# Altium integrated library NSC LDO.IntLib: 1202 symbols (part 13 of 27)
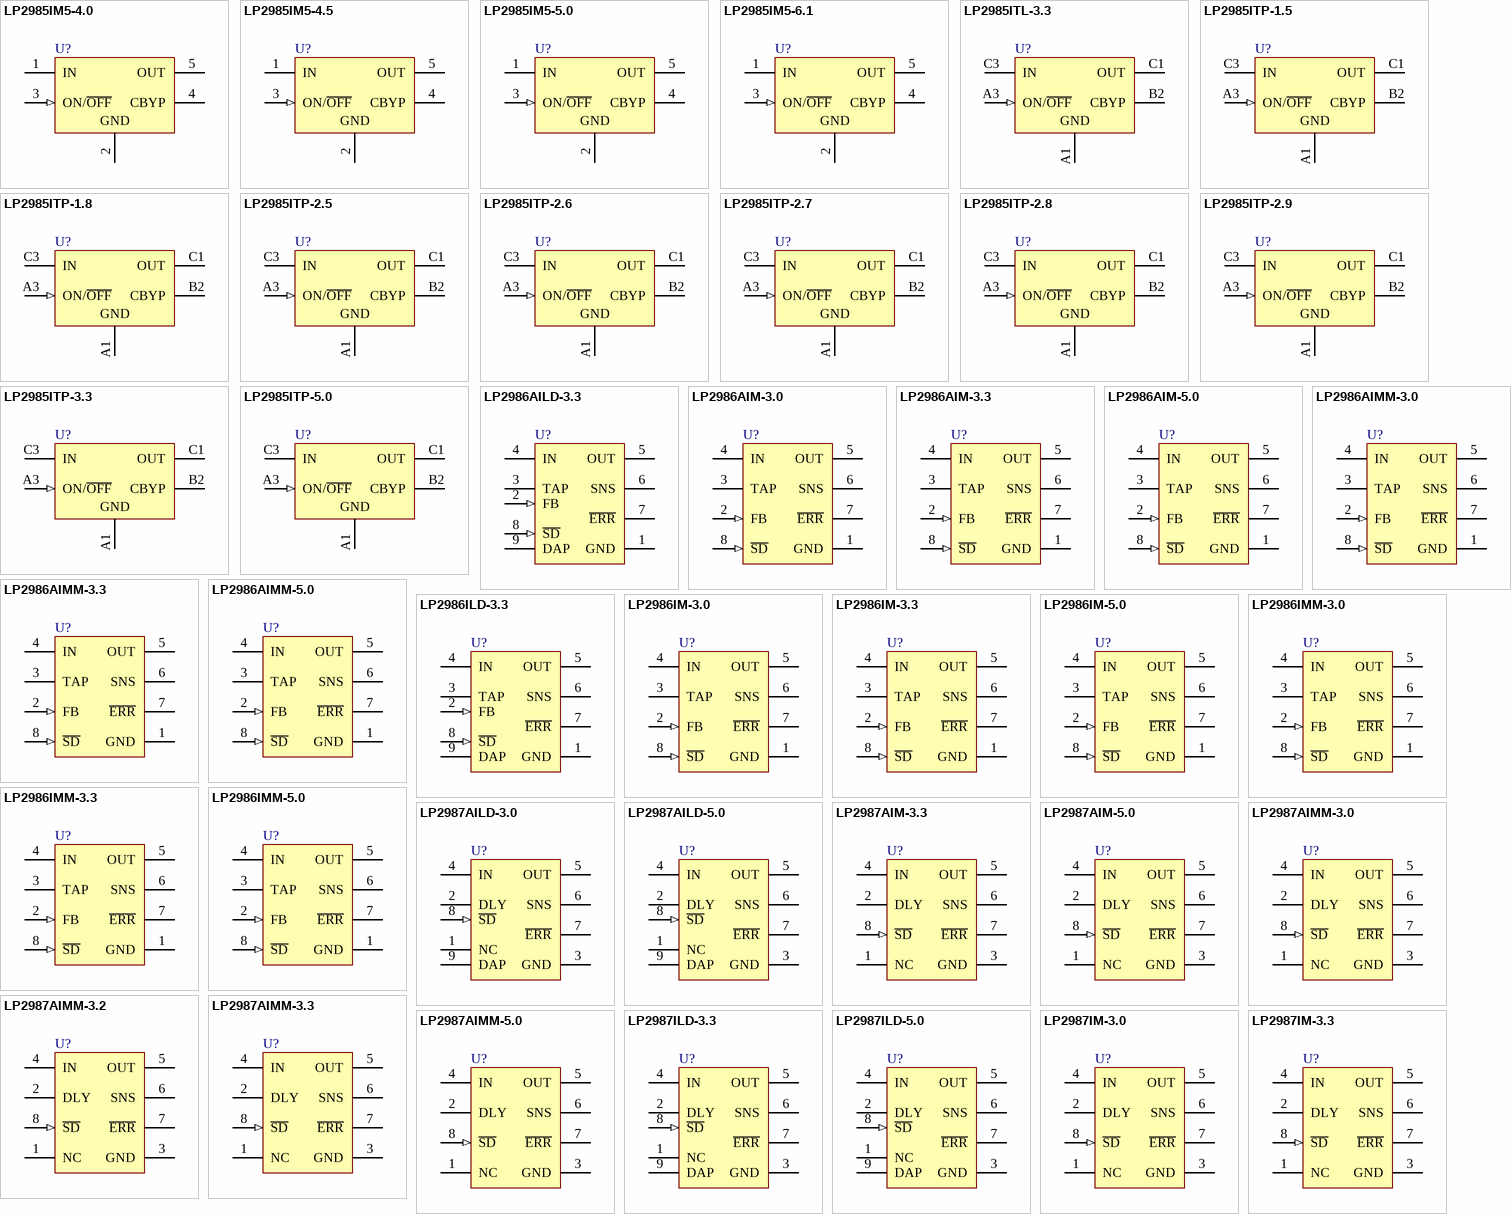
[diagram p42: symbols LP2985IM5-4.0 to LP2987IM-3.3]

## LP2987AIM-5.0
designator U?
Micropower, 200 mA Ultra Low-Dropout Voltage Regulator with Programmable Power-On Reset Delay; PartNumber: LP2987AIM-5.0; Manufacturer: National Semiconductor; CompType: LDO IC; PackageTopMarking: NSZXTT*2987A*IM5.0; Published: 4-Dec-2008; DatasheetVersion: Mar-2005; PackageVersion: revL, Sep-2006; PackageReference: M08A; Publisher: Altium Limited; PackageDescription: SOIC Narrow, 4.9 x 3.9 x 1.45mm, 8 Lead, 1.27mm Pitch; RoHS: Y; PinCount: 8; DigiKeyPartNumber: LP2987AIM-5.0-ND; Code_JEDEC: MS-012-AA; Code_IPC: SOIC127P600-8; ComponentLink1Description: LP2987 Datasheet; ComponentLink1URL: http://www.national.com/ds/LP/LP2987.pdf; ComponentLink2Description: LP2987 Web Page; ComponentLink2URL: http://www.national.com/pf/LP/LP2987.html; ComponentLink3Description: M08A Package Page; ComponentLink3URL: http://www.national.com/packaging/folders/m08a.html
footprint M08A_N (SOIC, 8-Leads, Body 4.9x3.9mm, Pitch 1.27mm, IPC Medium Density)
footprint M08A_L (SOIC, 8-Leads, Body 4.9x3.9mm, Pitch 1.27mm, IPC High Density)
footprint M08A_M (SOIC, 8-Leads, Body 4.9x3.9mm, Pitch 1.27mm, IPC Low Density)
pins: 1 NC, 2 DLY, 3 GND (power), 4 IN (power), 5 OUT (power), 6 SNS, 7 ~{ERR} (oc), 8 ~{SD} (in)

## LP2987AIMM-3.0
designator U?
Micropower, 200 mA Ultra Low-Dropout Voltage Regulator with Programmable Power-On Reset Delay; PartNumber: LP2987AIMM-3.0; Manufacturer: National Semiconductor; CompType: LDO IC; PackageTopMarking: ZXTT*L42A; Published: 4-Dec-2008; DatasheetVersion: Mar-2005; PackageVersion: revF, Apr-2008; PackageReference: MUA08A; Publisher: Altium Limited; PackageDescription: MINI SOIC, .118 x .118 x .034in, 8 Lead, .0256in Pitch; RoHS: Y; PinCount: 8; DigiKeyPartNumber: LP2987AIMM-3.0TR-ND; Code_JEDEC: MO-187-AA; ComponentLink1Description: LP2987 Datasheet; ComponentLink1URL: http://www.national.com/ds/LP/LP2987.pdf; ComponentLink2Description: LP2987 Web Page; ComponentLink2URL: http://www.national.com/pf/LP/LP2987.html; ComponentLink3Description: MUA08A Package Page; ComponentLink3URL: http://www.national.com/packaging/folders/mua08a.html
footprint MUA08A_N (TSOP, 8-Leads, Body 3x3mm, Pitch 0.65mm, IPC Medium Density)
footprint MUA08A_L (TSOP, 8-Leads, Body 3x3mm, Pitch 0.65mm, IPC High Density)
footprint MUA08A_M (TSOP, 8-Leads, Body 3x3mm, Pitch 0.65mm, IPC Low Density)
pins: 1 NC, 2 DLY, 3 GND (power), 4 IN (power), 5 OUT (power), 6 SNS, 7 ~{ERR} (oc), 8 ~{SD} (in)

## LP2987AIMM-3.2
designator U?
Micropower, 200 mA Ultra Low-Dropout Voltage Regulator with Programmable Power-On Reset Delay; PartNumber: LP2987AIMM-3.2; Manufacturer: National Semiconductor; CompType: LDO IC; PackageTopMarking: ZXTT*L66A; Published: 4-Dec-2008; DatasheetVersion: Mar-2005; PackageVersion: revF, Apr-2008; PackageReference: MUA08A; Publisher: Altium Limited; PackageDescription: MINI SOIC, .118 x .118 x .034in, 8 Lead, .0256in Pitch; RoHS: Y; PinCount: 8; DigiKeyPartNumber: LP2987AIMM-3.2CT-ND; Code_JEDEC: MO-187-AA; ComponentLink1Description: LP2987 Datasheet; ComponentLink1URL: http://www.national.com/ds/LP/LP2987.pdf; ComponentLink2Description: LP2987 Web Page; ComponentLink2URL: http://www.national.com/pf/LP/LP2987.html; ComponentLink3Description: MUA08A Package Page; ComponentLink3URL: http://www.national.com/packaging/folders/mua08a.html
footprint MUA08A_N (TSOP, 8-Leads, Body 3x3mm, Pitch 0.65mm, IPC Medium Density)
footprint MUA08A_L (TSOP, 8-Leads, Body 3x3mm, Pitch 0.65mm, IPC High Density)
footprint MUA08A_M (TSOP, 8-Leads, Body 3x3mm, Pitch 0.65mm, IPC Low Density)
pins: 1 NC, 2 DLY, 3 GND (power), 4 IN (power), 5 OUT (power), 6 SNS, 7 ~{ERR} (oc), 8 ~{SD} (in)

## LP2987AIMM-3.3
designator U?
Micropower, 200 mA Ultra Low-Dropout Voltage Regulator with Programmable Power-On Reset Delay; PartNumber: LP2987AIMM-3.3; Manufacturer: National Semiconductor; CompType: LDO IC; PackageTopMarking: ZXTT*L43A; Published: 4-Dec-2008; DatasheetVersion: Mar-2005; PackageVersion: revF, Apr-2008; PackageReference: MUA08A; Publisher: Altium Limited; PackageDescription: MINI SOIC, .118 x .118 x .034in, 8 Lead, .0256in Pitch; RoHS: Y; PinCount: 8; DigiKeyPartNumber: LP2987AIMM-3.3CT-ND; Code_JEDEC: MO-187-AA; ComponentLink1Description: LP2987 Datasheet; ComponentLink1URL: http://www.national.com/ds/LP/LP2987.pdf; ComponentLink2Description: LP2987 Web Page; ComponentLink2URL: http://www.national.com/pf/LP/LP2987.html; ComponentLink3Description: MUA08A Package Page; ComponentLink3URL: http://www.national.com/packaging/folders/mua08a.html
footprint MUA08A_N (TSOP, 8-Leads, Body 3x3mm, Pitch 0.65mm, IPC Medium Density)
footprint MUA08A_L (TSOP, 8-Leads, Body 3x3mm, Pitch 0.65mm, IPC High Density)
footprint MUA08A_M (TSOP, 8-Leads, Body 3x3mm, Pitch 0.65mm, IPC Low Density)
pins: 1 NC, 2 DLY, 3 GND (power), 4 IN (power), 5 OUT (power), 6 SNS, 7 ~{ERR} (oc), 8 ~{SD} (in)

## LP2987AIMM-5.0
designator U?
Micropower, 200 mA Ultra Low-Dropout Voltage Regulator with Programmable Power-On Reset Delay; PartNumber: LP2987AIMM-5.0; Manufacturer: National Semiconductor; CompType: LDO IC; PackageTopMarking: ZXTT*L44A; Published: 4-Dec-2008; DatasheetVersion: Mar-2005; PackageVersion: revF, Apr-2008; PackageReference: MUA08A; Publisher: Altium Limited; PackageDescription: MINI SOIC, .118 x .118 x .034in, 8 Lead, .0256in Pitch; RoHS: Y; PinCount: 8; DigiKeyPartNumber: LP2987AIMM-5.0CT-ND; Code_JEDEC: MO-187-AA; ComponentLink1Description: LP2987 Datasheet; ComponentLink1URL: http://www.national.com/ds/LP/LP2987.pdf; ComponentLink2Description: LP2987 Web Page; ComponentLink2URL: http://www.national.com/pf/LP/LP2987.html; ComponentLink3Description: MUA08A Package Page; ComponentLink3URL: http://www.national.com/packaging/folders/mua08a.html
footprint MUA08A_N (TSOP, 8-Leads, Body 3x3mm, Pitch 0.65mm, IPC Medium Density)
footprint MUA08A_L (TSOP, 8-Leads, Body 3x3mm, Pitch 0.65mm, IPC High Density)
footprint MUA08A_M (TSOP, 8-Leads, Body 3x3mm, Pitch 0.65mm, IPC Low Density)
pins: 1 NC, 2 DLY, 3 GND (power), 4 IN (power), 5 OUT (power), 6 SNS, 7 ~{ERR} (oc), 8 ~{SD} (in)

## LP2987ILD-3.3
designator U?
Micropower, 200 mA Ultra Low-Dropout Voltage Regulator with Programmable Power-On Reset Delay; PartNumber: LP2987ILD-3.3; Manufacturer: National Semiconductor; CompType: LDO IC; PackageTopMarking: NS*UZXYTT*L008A*B; Published: 4-Dec-2008; DatasheetVersion: Mar-2005; PackageVersion: revB, Jun-2003; PackageReference: LDC08A; Publisher: Altium Limited; PackageDescription: LLP, Plastic, Dual, 4 x 4 x 0.75mm Body, 8 Lead, 0.8mm Pitch; RoHS: Y; PinCount: 8; DigiKeyPartNumber: LP2987ILD-3.3CT-ND; ComponentLink1Description: LP2987 Datasheet; ComponentLink1URL: http://www.national.com/ds/LP/LP2987.pdf; ComponentLink2Description: LP2987 Web Page; ComponentLink2URL: http://www.national.com/pf/LP/LP2987.html; ComponentLink3Description: LDC08A Package Page; ComponentLink3URL: http://www.national.com/packaging/folders/ldc08a.html
footprint LDC08A (PSON, 8-Leads, Body 4x4mm, Pitch 0.8mm, NSC Recommended)
pins: 1 NC, 2 DLY, 3 GND (power), 4 IN (power), 5 OUT (power), 6 SNS, 7 ~{ERR} (oc), 8 ~{SD} (in), 9 DAP (power)

## LP2987ILD-5.0
designator U?
Micropower, 200 mA Ultra Low-Dropout Voltage Regulator with Programmable Power-On Reset Delay; PartNumber: LP2987ILD-5.0; Manufacturer: National Semiconductor; CompType: LDO IC; PackageTopMarking: NS*UZXYTT*L009A*B; Published: 4-Dec-2008; DatasheetVersion: Mar-2005; PackageVersion: revB, Jun-2003; PackageReference: LDC08A; Publisher: Altium Limited; PackageDescription: LLP, Plastic, Dual, 4 x 4 x 0.75mm Body, 8 Lead, 0.8mm Pitch; RoHS: Y; PinCount: 8; DigiKeyPartNumber: LP2987ILD-5.0CT-ND; ComponentLink1Description: LP2987 Datasheet; ComponentLink1URL: http://www.national.com/ds/LP/LP2987.pdf; ComponentLink2Description: LP2987 Web Page; ComponentLink2URL: http://www.national.com/pf/LP/LP2987.html; ComponentLink3Description: LDC08A Package Page; ComponentLink3URL: http://www.national.com/packaging/folders/ldc08a.html
footprint LDC08A (PSON, 8-Leads, Body 4x4mm, Pitch 0.8mm, NSC Recommended)
pins: 1 NC, 2 DLY, 3 GND (power), 4 IN (power), 5 OUT (power), 6 SNS, 7 ~{ERR} (oc), 8 ~{SD} (in), 9 DAP (power)

## LP2987IM-3.0
designator U?
Micropower, 200 mA Ultra Low-Dropout Voltage Regulator with Programmable Power-On Reset Delay; PartNumber: LP2987IM-3.0; Manufacturer: National Semiconductor; CompType: LDO IC; PackageTopMarking: NSZXTT*2987I*M3.0; Published: 4-Dec-2008; DatasheetVersion: Mar-2005; PackageVersion: revL, Sep-2006; PackageReference: M08A; Publisher: Altium Limited; PackageDescription: SOIC Narrow, 4.9 x 3.9 x 1.45mm, 8 Lead, 1.27mm Pitch; RoHS: Y; PinCount: 8; DigiKeyPartNumber: LP2987IM-3.0-ND; Code_JEDEC: MS-012-AA; Code_IPC: SOIC127P600-8; ComponentLink1Description: LP2987 Datasheet; ComponentLink1URL: http://www.national.com/ds/LP/LP2987.pdf; ComponentLink2Description: LP2987 Web Page; ComponentLink2URL: http://www.national.com/pf/LP/LP2987.html; ComponentLink3Description: M08A Package Page; ComponentLink3URL: http://www.national.com/packaging/folders/m08a.html
footprint M08A_N (SOIC, 8-Leads, Body 4.9x3.9mm, Pitch 1.27mm, IPC Medium Density)
footprint M08A_L (SOIC, 8-Leads, Body 4.9x3.9mm, Pitch 1.27mm, IPC High Density)
footprint M08A_M (SOIC, 8-Leads, Body 4.9x3.9mm, Pitch 1.27mm, IPC Low Density)
pins: 1 NC, 2 DLY, 3 GND (power), 4 IN (power), 5 OUT (power), 6 SNS, 7 ~{ERR} (oc), 8 ~{SD} (in)

## LP2987IM-3.3
designator U?
Micropower, 200 mA Ultra Low-Dropout Voltage Regulator with Programmable Power-On Reset Delay; PartNumber: LP2987IM-3.3; Manufacturer: National Semiconductor; CompType: LDO IC; PackageTopMarking: NSZXTT*2987I*M3.3; Published: 4-Dec-2008; DatasheetVersion: Mar-2005; PackageVersion: revL, Sep-2006; PackageReference: M08A; Publisher: Altium Limited; PackageDescription: SOIC Narrow, 4.9 x 3.9 x 1.45mm, 8 Lead, 1.27mm Pitch; RoHS: Y; PinCount: 8; DigiKeyPartNumber: LP2987IM-3.3-ND; Code_JEDEC: MS-012-AA; Code_IPC: SOIC127P600-8; ComponentLink1Description: LP2987 Datasheet; ComponentLink1URL: http://www.national.com/ds/LP/LP2987.pdf; ComponentLink2Description: LP2987 Web Page; ComponentLink2URL: http://www.national.com/pf/LP/LP2987.html; ComponentLink3Description: M08A Package Page; ComponentLink3URL: http://www.national.com/packaging/folders/m08a.html
footprint M08A_N (SOIC, 8-Leads, Body 4.9x3.9mm, Pitch 1.27mm, IPC Medium Density)
footprint M08A_L (SOIC, 8-Leads, Body 4.9x3.9mm, Pitch 1.27mm, IPC High Density)
footprint M08A_M (SOIC, 8-Leads, Body 4.9x3.9mm, Pitch 1.27mm, IPC Low Density)
pins: 1 NC, 2 DLY, 3 GND (power), 4 IN (power), 5 OUT (power), 6 SNS, 7 ~{ERR} (oc), 8 ~{SD} (in)

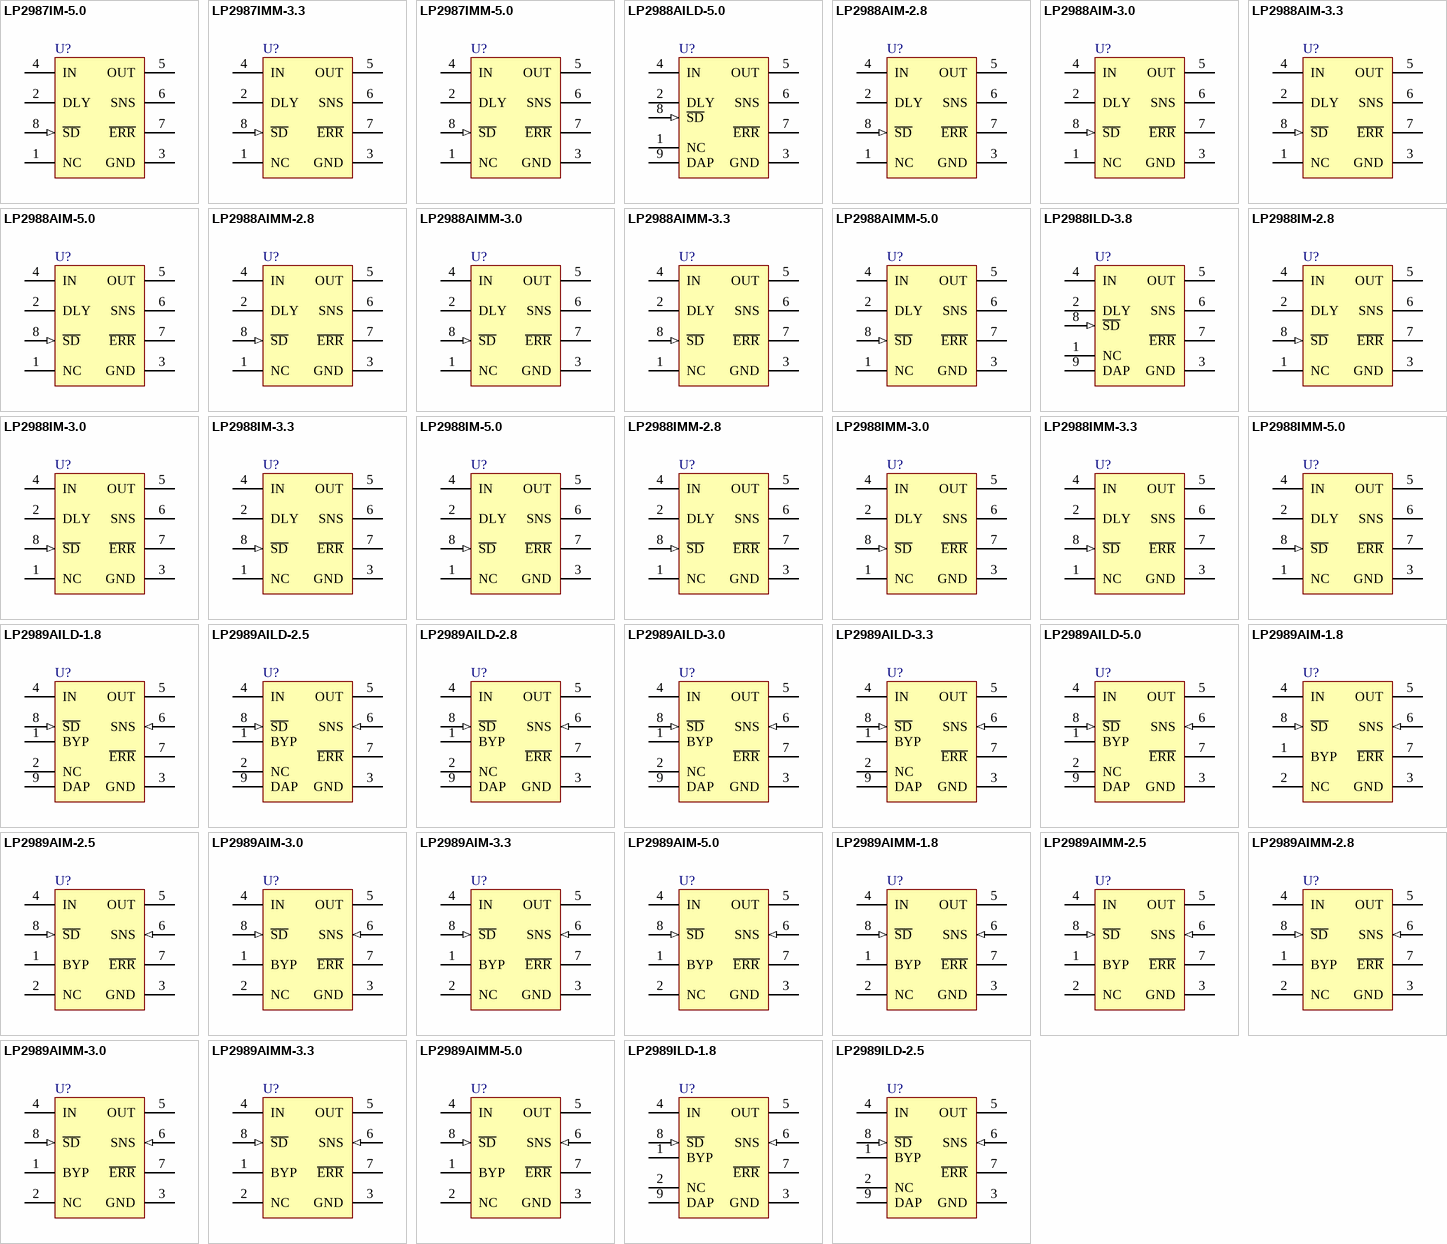
[diagram p14: symbols LP2987IM-5.0 to LP2989ILD-2.5]

## LP2987IM-5.0
designator U?
Micropower, 200 mA Ultra Low-Dropout Voltage Regulator with Programmable Power-On Reset Delay; PartNumber: LP2987IM-5.0; Manufacturer: National Semiconductor; CompType: LDO IC; PackageTopMarking: NSZXTT*2987I*M5.0; Published: 4-Dec-2008; DatasheetVersion: Mar-2005; PackageVersion: revL, Sep-2006; PackageReference: M08A; Publisher: Altium Limited; PackageDescription: SOIC Narrow, 4.9 x 3.9 x 1.45mm, 8 Lead, 1.27mm Pitch; RoHS: Y; PinCount: 8; DigiKeyPartNumber: LP2987IM-5.0-ND; Code_JEDEC: MS-012-AA; Code_IPC: SOIC127P600-8; ComponentLink1Description: LP2987 Datasheet; ComponentLink1URL: http://www.national.com/ds/LP/LP2987.pdf; ComponentLink2Description: LP2987 Web Page; ComponentLink2URL: http://www.national.com/pf/LP/LP2987.html; ComponentLink3Description: M08A Package Page; ComponentLink3URL: http://www.national.com/packaging/folders/m08a.html
footprint M08A_N (SOIC, 8-Leads, Body 4.9x3.9mm, Pitch 1.27mm, IPC Medium Density)
footprint M08A_L (SOIC, 8-Leads, Body 4.9x3.9mm, Pitch 1.27mm, IPC High Density)
footprint M08A_M (SOIC, 8-Leads, Body 4.9x3.9mm, Pitch 1.27mm, IPC Low Density)
pins: 1 NC, 2 DLY, 3 GND (power), 4 IN (power), 5 OUT (power), 6 SNS, 7 ~{ERR} (oc), 8 ~{SD} (in)

## LP2987IMM-3.3
designator U?
Micropower, 200 mA Ultra Low-Dropout Voltage Regulator with Programmable Power-On Reset Delay; PartNumber: LP2987IMM-3.3; Manufacturer: National Semiconductor; CompType: LDO IC; PackageTopMarking: ZXTT*L43B; Published: 4-Dec-2008; DatasheetVersion: Mar-2005; PackageVersion: revF, Apr-2008; PackageReference: MUA08A; Publisher: Altium Limited; PackageDescription: MINI SOIC, .118 x .118 x .034in, 8 Lead, .0256in Pitch; RoHS: Y; PinCount: 8; DigiKeyPartNumber: LP2987IMM-3.3CT-ND; Code_JEDEC: MO-187-AA; ComponentLink1Description: LP2987 Datasheet; ComponentLink1URL: http://www.national.com/ds/LP/LP2987.pdf; ComponentLink2Description: LP2987 Web Page; ComponentLink2URL: http://www.national.com/pf/LP/LP2987.html; ComponentLink3Description: MUA08A Package Page; ComponentLink3URL: http://www.national.com/packaging/folders/mua08a.html
footprint MUA08A_N (TSOP, 8-Leads, Body 3x3mm, Pitch 0.65mm, IPC Medium Density)
footprint MUA08A_L (TSOP, 8-Leads, Body 3x3mm, Pitch 0.65mm, IPC High Density)
footprint MUA08A_M (TSOP, 8-Leads, Body 3x3mm, Pitch 0.65mm, IPC Low Density)
pins: 1 NC, 2 DLY, 3 GND (power), 4 IN (power), 5 OUT (power), 6 SNS, 7 ~{ERR} (oc), 8 ~{SD} (in)

## LP2987IMM-5.0
designator U?
Micropower, 200 mA Ultra Low-Dropout Voltage Regulator with Programmable Power-On Reset Delay; PartNumber: LP2987IMM-5.0; Manufacturer: National Semiconductor; CompType: LDO IC; PackageTopMarking: ZXTT*L44B; Published: 4-Dec-2008; DatasheetVersion: Mar-2005; PackageVersion: revF, Apr-2008; PackageReference: MUA08A; Publisher: Altium Limited; PackageDescription: MINI SOIC, .118 x .118 x .034in, 8 Lead, .0256in Pitch; RoHS: Y; PinCount: 8; DigiKeyPartNumber: LP2987IMM-5.0CT-ND; Code_JEDEC: MO-187-AA; ComponentLink1Description: LP2987 Datasheet; ComponentLink1URL: http://www.national.com/ds/LP/LP2987.pdf; ComponentLink2Description: LP2987 Web Page; ComponentLink2URL: http://www.national.com/pf/LP/LP2987.html; ComponentLink3Description: MUA08A Package Page; ComponentLink3URL: http://www.national.com/packaging/folders/mua08a.html
footprint MUA08A_N (TSOP, 8-Leads, Body 3x3mm, Pitch 0.65mm, IPC Medium Density)
footprint MUA08A_L (TSOP, 8-Leads, Body 3x3mm, Pitch 0.65mm, IPC High Density)
footprint MUA08A_M (TSOP, 8-Leads, Body 3x3mm, Pitch 0.65mm, IPC Low Density)
pins: 1 NC, 2 DLY, 3 GND (power), 4 IN (power), 5 OUT (power), 6 SNS, 7 ~{ERR} (oc), 8 ~{SD} (in)

## LP2988AILD-5.0
designator U?
Micropower, 200 mA Ultra Low-Dropout Low Noise Voltage Regulator with Programmable Power-On Reset Delay; PartNumber: LP2988AILD-5.0; Manufacturer: National Semiconductor; CompType: LDO IC; PackageTopMarking: NS*UZXYTT*L01DA; Published: 4-Dec-2008; DatasheetVersion: Mar-2005; PackageVersion: revB, Jun-2003; PackageReference: LDC08A; Publisher: Altium Limited; PackageDescription: LLP, Plastic, Dual, 4 x 4 x 0.75mm Body, 8 Lead, 0.8mm Pitch; RoHS: O; PinCount: 8; DigiKeyPartNumber: LP2988AILD-5.0CT-ND; ComponentLink1Description: LP2988 Datasheet; ComponentLink1URL: http://www.national.com/ds/LP/LP2988.pdf; ComponentLink2Description: LP2988 Web Page; ComponentLink2URL: http://www.national.com/pf/LP/LP2988.html; ComponentLink3Description: LDC08A Package Page; ComponentLink3URL: http://www.national.com/packaging/folders/ldc08a.html
footprint LDC08A (PSON, 8-Leads, Body 4x4mm, Pitch 0.8mm, NSC Recommended)
pins: 1 NC, 2 DLY, 3 GND (power), 4 IN (power), 5 OUT (power), 6 SNS, 7 ~{ERR} (oc), 8 ~{SD} (in), 9 DAP (power)

## LP2988AIM-2.8
designator U?
Micropower, 200 mA Ultra Low-Dropout Low Noise Voltage Regulator with Programmable Power-On Reset Delay; PartNumber: LP2988AIM-2.8; Manufacturer: National Semiconductor; CompType: LDO IC; PackageTopMarking: NSZXTT*2988A*IM2.8; Published: 4-Dec-2008; DatasheetVersion: Mar-2005; PackageVersion: revL, Sep-2006; PackageReference: M08A; Publisher: Altium Limited; PackageDescription: SOIC Narrow, 4.9 x 3.9 x 1.45mm, 8 Lead, 1.27mm Pitch; RoHS: Y; PinCount: 8; DigiKeyPartNumber: LP2988AIM-2.8-ND; Code_JEDEC: MS-012-AA; Code_IPC: SOIC127P600-8; ComponentLink1Description: LP2988 Datasheet; ComponentLink1URL: http://www.national.com/ds/LP/LP2988.pdf; ComponentLink2Description: LP2988 Web Page; ComponentLink2URL: http://www.national.com/pf/LP/LP2988.html; ComponentLink3Description: M08A Package Page; ComponentLink3URL: http://www.national.com/packaging/folders/m08a.html
footprint M08A_N (SOIC, 8-Leads, Body 4.9x3.9mm, Pitch 1.27mm, IPC Medium Density)
footprint M08A_L (SOIC, 8-Leads, Body 4.9x3.9mm, Pitch 1.27mm, IPC High Density)
footprint M08A_M (SOIC, 8-Leads, Body 4.9x3.9mm, Pitch 1.27mm, IPC Low Density)
pins: 1 NC, 2 DLY, 3 GND (power), 4 IN (power), 5 OUT (power), 6 SNS, 7 ~{ERR} (oc), 8 ~{SD} (in)

## LP2988AIM-3.0
designator U?
Micropower, 200 mA Ultra Low-Dropout Low Noise Voltage Regulator with Programmable Power-On Reset Delay; PartNumber: LP2988AIM-3.0; Manufacturer: National Semiconductor; CompType: LDO IC; PackageTopMarking: NSZXTT*2988A*IM3.0; Published: 4-Dec-2008; DatasheetVersion: Mar-2005; PackageVersion: revL, Sep-2006; PackageReference: M08A; Publisher: Altium Limited; PackageDescription: SOIC Narrow, 4.9 x 3.9 x 1.45mm, 8 Lead, 1.27mm Pitch; RoHS: Y; PinCount: 8; DigiKeyPartNumber: LP2988AIM-3.0-ND; Code_JEDEC: MS-012-AA; Code_IPC: SOIC127P600-8; ComponentLink1Description: LP2988 Datasheet; ComponentLink1URL: http://www.national.com/ds/LP/LP2988.pdf; ComponentLink2Description: LP2988 Web Page; ComponentLink2URL: http://www.national.com/pf/LP/LP2988.html; ComponentLink3Description: M08A Package Page; ComponentLink3URL: http://www.national.com/packaging/folders/m08a.html
footprint M08A_N (SOIC, 8-Leads, Body 4.9x3.9mm, Pitch 1.27mm, IPC Medium Density)
footprint M08A_L (SOIC, 8-Leads, Body 4.9x3.9mm, Pitch 1.27mm, IPC High Density)
footprint M08A_M (SOIC, 8-Leads, Body 4.9x3.9mm, Pitch 1.27mm, IPC Low Density)
pins: 1 NC, 2 DLY, 3 GND (power), 4 IN (power), 5 OUT (power), 6 SNS, 7 ~{ERR} (oc), 8 ~{SD} (in)

## LP2988AIM-3.3
designator U?
Micropower, 200 mA Ultra Low-Dropout Low Noise Voltage Regulator with Programmable Power-On Reset Delay; PartNumber: LP2988AIM-3.3; Manufacturer: National Semiconductor; CompType: LDO IC; PackageTopMarking: NSZXTT*2988A*IM3.3; Published: 4-Dec-2008; DatasheetVersion: Mar-2005; PackageVersion: revL, Sep-2006; PackageReference: M08A; Publisher: Altium Limited; PackageDescription: SOIC Narrow, 4.9 x 3.9 x 1.45mm, 8 Lead, 1.27mm Pitch; RoHS: O; PinCount: 8; DigiKeyPartNumber: LP2988AIM-3.3-ND; Code_JEDEC: MS-012-AA; Code_IPC: SOIC127P600-8; ComponentLink1Description: LP2988 Datasheet; ComponentLink1URL: http://www.national.com/ds/LP/LP2988.pdf; ComponentLink2Description: LP2988 Web Page; ComponentLink2URL: http://www.national.com/pf/LP/LP2988.html; ComponentLink3Description: M08A Package Page; ComponentLink3URL: http://www.national.com/packaging/folders/m08a.html
footprint M08A_N (SOIC, 8-Leads, Body 4.9x3.9mm, Pitch 1.27mm, IPC Medium Density)
footprint M08A_L (SOIC, 8-Leads, Body 4.9x3.9mm, Pitch 1.27mm, IPC High Density)
footprint M08A_M (SOIC, 8-Leads, Body 4.9x3.9mm, Pitch 1.27mm, IPC Low Density)
pins: 1 NC, 2 DLY, 3 GND (power), 4 IN (power), 5 OUT (power), 6 SNS, 7 ~{ERR} (oc), 8 ~{SD} (in)

## LP2988AIM-5.0
designator U?
Micropower, 200 mA Ultra Low-Dropout Low Noise Voltage Regulator with Programmable Power-On Reset Delay; PartNumber: LP2988AIM-5.0; Manufacturer: National Semiconductor; CompType: LDO IC; PackageTopMarking: NSZXTT*2988A*IM5.0; Published: 4-Dec-2008; DatasheetVersion: Mar-2005; PackageVersion: revL, Sep-2006; PackageReference: M08A; Publisher: Altium Limited; PackageDescription: SOIC Narrow, 4.9 x 3.9 x 1.45mm, 8 Lead, 1.27mm Pitch; RoHS: O; PinCount: 8; DigiKeyPartNumber: LP2988AIM-5.0-ND; Code_JEDEC: MS-012-AA; Code_IPC: SOIC127P600-8; ComponentLink1Description: LP2988 Datasheet; ComponentLink1URL: http://www.national.com/ds/LP/LP2988.pdf; ComponentLink2Description: LP2988 Web Page; ComponentLink2URL: http://www.national.com/pf/LP/LP2988.html; ComponentLink3Description: M08A Package Page; ComponentLink3URL: http://www.national.com/packaging/folders/m08a.html
footprint M08A_N (SOIC, 8-Leads, Body 4.9x3.9mm, Pitch 1.27mm, IPC Medium Density)
footprint M08A_L (SOIC, 8-Leads, Body 4.9x3.9mm, Pitch 1.27mm, IPC High Density)
footprint M08A_M (SOIC, 8-Leads, Body 4.9x3.9mm, Pitch 1.27mm, IPC Low Density)
pins: 1 NC, 2 DLY, 3 GND (power), 4 IN (power), 5 OUT (power), 6 SNS, 7 ~{ERR} (oc), 8 ~{SD} (in)

## LP2988AIMM-2.8
designator U?
Micropower, 200 mA Ultra Low-Dropout Low Noise Voltage Regulator with Programmable Power-On Reset Delay; PartNumber: LP2988AIMM-2.8; Manufacturer: National Semiconductor; CompType: LDO IC; PackageTopMarking: ZXTT*L0IA; Published: 4-Dec-2008; DatasheetVersion: Mar-2005; PackageVersion: revF, Apr-2008; PackageReference: MUA08A; Publisher: Altium Limited; PackageDescription: MINI SOIC, .118 x .118 x .034in, 8 Lead, .0256in Pitch; RoHS: Y; PinCount: 8; DigiKeyPartNumber: LP2988AIMM-2.8CT-ND; Code_JEDEC: MO-187-AA; ComponentLink1Description: LP2988 Datasheet; ComponentLink1URL: http://www.national.com/ds/LP/LP2988.pdf; ComponentLink2Description: LP2988 Web Page; ComponentLink2URL: http://www.national.com/pf/LP/LP2988.html; ComponentLink3Description: MUA08A Package Page; ComponentLink3URL: http://www.national.com/packaging/folders/mua08a.html
footprint MUA08A_N (TSOP, 8-Leads, Body 3x3mm, Pitch 0.65mm, IPC Medium Density)
footprint MUA08A_L (TSOP, 8-Leads, Body 3x3mm, Pitch 0.65mm, IPC High Density)
footprint MUA08A_M (TSOP, 8-Leads, Body 3x3mm, Pitch 0.65mm, IPC Low Density)
pins: 1 NC, 2 DLY, 3 GND (power), 4 IN (power), 5 OUT (power), 6 SNS, 7 ~{ERR} (oc), 8 ~{SD} (in)

## LP2988AIMM-3.0
designator U?
Micropower, 200 mA Ultra Low-Dropout Low Noise Voltage Regulator with Programmable Power-On Reset Delay; PartNumber: LP2988AIMM-3.0; Manufacturer: National Semiconductor; CompType: LDO IC; PackageTopMarking: ZXTT*L49A; Published: 4-Dec-2008; DatasheetVersion: Mar-2005; PackageVersion: revF, Apr-2008; PackageReference: MUA08A; Publisher: Altium Limited; PackageDescription: MINI SOIC, .118 x .118 x .034in, 8 Lead, .0256in Pitch; RoHS: Y; PinCount: 8; DigiKeyPartNumber: LP2988AIMM-3.0CT-ND; Code_JEDEC: MO-187-AA; ComponentLink1Description: LP2988 Datasheet; ComponentLink1URL: http://www.national.com/ds/LP/LP2988.pdf; ComponentLink2Description: LP2988 Web Page; ComponentLink2URL: http://www.national.com/pf/LP/LP2988.html; ComponentLink3Description: MUA08A Package Page; ComponentLink3URL: http://www.national.com/packaging/folders/mua08a.html
footprint MUA08A_N (TSOP, 8-Leads, Body 3x3mm, Pitch 0.65mm, IPC Medium Density)
footprint MUA08A_L (TSOP, 8-Leads, Body 3x3mm, Pitch 0.65mm, IPC High Density)
footprint MUA08A_M (TSOP, 8-Leads, Body 3x3mm, Pitch 0.65mm, IPC Low Density)
pins: 1 NC, 2 DLY, 3 GND (power), 4 IN (power), 5 OUT (power), 6 SNS, 7 ~{ERR} (oc), 8 ~{SD} (in)

## LP2988AIMM-3.3
designator U?
Micropower, 200 mA Ultra Low-Dropout Low Noise Voltage Regulator with Programmable Power-On Reset Delay; PartNumber: LP2988AIMM-3.3; Manufacturer: National Semiconductor; CompType: LDO IC; PackageTopMarking: ZXTT*L50A; Published: 4-Dec-2008; DatasheetVersion: Mar-2005; PackageVersion: revF, Apr-2008; PackageReference: MUA08A; Publisher: Altium Limited; PackageDescription: MINI SOIC, .118 x .118 x .034in, 8 Lead, .0256in Pitch; RoHS: Y; PinCount: 8; DigiKeyPartNumber: LP2988AIMM-3.3CT-ND; Code_JEDEC: MO-187-AA; ComponentLink1Description: LP2988 Datasheet; ComponentLink1URL: http://www.national.com/ds/LP/LP2988.pdf; ComponentLink2Description: LP2988 Web Page; ComponentLink2URL: http://www.national.com/pf/LP/LP2988.html; ComponentLink3Description: MUA08A Package Page; ComponentLink3URL: http://www.national.com/packaging/folders/mua08a.html
footprint MUA08A_N (TSOP, 8-Leads, Body 3x3mm, Pitch 0.65mm, IPC Medium Density)
footprint MUA08A_L (TSOP, 8-Leads, Body 3x3mm, Pitch 0.65mm, IPC High Density)
footprint MUA08A_M (TSOP, 8-Leads, Body 3x3mm, Pitch 0.65mm, IPC Low Density)
pins: 1 NC, 2 DLY, 3 GND (power), 4 IN (power), 5 OUT (power), 6 SNS, 7 ~{ERR} (oc), 8 ~{SD} (in)

## LP2988AIMM-5.0
designator U?
Micropower, 200 mA Ultra Low-Dropout Low Noise Voltage Regulator with Programmable Power-On Reset Delay; PartNumber: LP2988AIMM-5.0; Manufacturer: National Semiconductor; CompType: LDO IC; PackageTopMarking: ZXTT*L51A; Published: 4-Dec-2008; DatasheetVersion: Mar-2005; PackageVersion: revF, Apr-2008; PackageReference: MUA08A; Publisher: Altium Limited; PackageDescription: MINI SOIC, .118 x .118 x .034in, 8 Lead, .0256in Pitch; RoHS: Y; PinCount: 8; DigiKeyPartNumber: LP2988AIMM-5.0CT-ND; Code_JEDEC: MO-187-AA; ComponentLink1Description: LP2988 Datasheet; ComponentLink1URL: http://www.national.com/ds/LP/LP2988.pdf; ComponentLink2Description: LP2988 Web Page; ComponentLink2URL: http://www.national.com/pf/LP/LP2988.html; ComponentLink3Description: MUA08A Package Page; ComponentLink3URL: http://www.national.com/packaging/folders/mua08a.html
footprint MUA08A_N (TSOP, 8-Leads, Body 3x3mm, Pitch 0.65mm, IPC Medium Density)
footprint MUA08A_L (TSOP, 8-Leads, Body 3x3mm, Pitch 0.65mm, IPC High Density)
footprint MUA08A_M (TSOP, 8-Leads, Body 3x3mm, Pitch 0.65mm, IPC Low Density)
pins: 1 NC, 2 DLY, 3 GND (power), 4 IN (power), 5 OUT (power), 6 SNS, 7 ~{ERR} (oc), 8 ~{SD} (in)

## LP2988ILD-3.8
designator U?
Micropower, 200 mA Ultra Low-Dropout Low Noise Voltage Regulator with Programmable Power-On Reset Delay; PartNumber: LP2988ILD-3.8; Manufacturer: National Semiconductor; CompType: LDO IC; PackageTopMarking: NS*UZXYTT*L083A B; Published: 4-Dec-2008; DatasheetVersion: Mar-2005; PackageVersion: revB, Jun-2003; PackageReference: LDC08A; Publisher: Altium Limited; PackageDescription: LLP, Plastic, Dual, 4 x 4 x 0.75mm Body, 8 Lead, 0.8mm Pitch; RoHS: Y; PinCount: 8; DigiKeyPartNumber: LP2988ILD-3.8-ND; ComponentLink1Description: LP2988 Datasheet; ComponentLink1URL: http://www.national.com/ds/LP/LP2988.pdf; ComponentLink2Description: LP2988 Web Page; ComponentLink2URL: http://www.national.com/pf/LP/LP2988.html; ComponentLink3Description: LDC08A Package Page; ComponentLink3URL: http://www.national.com/packaging/folders/ldc08a.html
footprint LDC08A (PSON, 8-Leads, Body 4x4mm, Pitch 0.8mm, NSC Recommended)
pins: 1 NC, 2 DLY, 3 GND (power), 4 IN (power), 5 OUT (power), 6 SNS, 7 ~{ERR} (oc), 8 ~{SD} (in), 9 DAP (power)

## LP2988IM-2.8
designator U?
Micropower, 200 mA Ultra Low-Dropout Low Noise Voltage Regulator with Programmable Power-On Reset Delay; PartNumber: LP2988IM-2.8; Manufacturer: National Semiconductor; CompType: LDO IC; PackageTopMarking: NSZXTT*2988I*M-2.8; Published: 4-Dec-2008; DatasheetVersion: Mar-2005; PackageVersion: revL, Sep-2006; PackageReference: M08A; Publisher: Altium Limited; PackageDescription: SOIC Narrow, 4.9 x 3.9 x 1.45mm, 8 Lead, 1.27mm Pitch; RoHS: Y; PinCount: 8; DigiKeyPartNumber: LP2988IM-2.8-ND; Code_JEDEC: MS-012-AA; Code_IPC: SOIC127P600-8; ComponentLink1Description: LP2988 Datasheet; ComponentLink1URL: http://www.national.com/ds/LP/LP2988.pdf; ComponentLink2Description: LP2988 Web Page; ComponentLink2URL: http://www.national.com/pf/LP/LP2988.html; ComponentLink3Description: M08A Package Page; ComponentLink3URL: http://www.national.com/packaging/folders/m08a.html
footprint M08A_N (SOIC, 8-Leads, Body 4.9x3.9mm, Pitch 1.27mm, IPC Medium Density)
footprint M08A_L (SOIC, 8-Leads, Body 4.9x3.9mm, Pitch 1.27mm, IPC High Density)
footprint M08A_M (SOIC, 8-Leads, Body 4.9x3.9mm, Pitch 1.27mm, IPC Low Density)
pins: 1 NC, 2 DLY, 3 GND (power), 4 IN (power), 5 OUT (power), 6 SNS, 7 ~{ERR} (oc), 8 ~{SD} (in)

## LP2988IM-3.0
designator U?
Micropower, 200 mA Ultra Low-Dropout Low Noise Voltage Regulator with Programmable Power-On Reset Delay; PartNumber: LP2988IM-3.0; Manufacturer: National Semiconductor; CompType: LDO IC; PackageTopMarking: NSZXTT*2988I*M3.0; Published: 4-Dec-2008; DatasheetVersion: Mar-2005; PackageVersion: revL, Sep-2006; PackageReference: M08A; Publisher: Altium Limited; PackageDescription: SOIC Narrow, 4.9 x 3.9 x 1.45mm, 8 Lead, 1.27mm Pitch; RoHS: Y; PinCount: 8; DigiKeyPartNumber: LP2988IM-3.0-ND; Code_JEDEC: MS-012-AA; Code_IPC: SOIC127P600-8; ComponentLink1Description: LP2988 Datasheet; ComponentLink1URL: http://www.national.com/ds/LP/LP2988.pdf; ComponentLink2Description: LP2988 Web Page; ComponentLink2URL: http://www.national.com/pf/LP/LP2988.html; ComponentLink3Description: M08A Package Page; ComponentLink3URL: http://www.national.com/packaging/folders/m08a.html
footprint M08A_N (SOIC, 8-Leads, Body 4.9x3.9mm, Pitch 1.27mm, IPC Medium Density)
footprint M08A_L (SOIC, 8-Leads, Body 4.9x3.9mm, Pitch 1.27mm, IPC High Density)
footprint M08A_M (SOIC, 8-Leads, Body 4.9x3.9mm, Pitch 1.27mm, IPC Low Density)
pins: 1 NC, 2 DLY, 3 GND (power), 4 IN (power), 5 OUT (power), 6 SNS, 7 ~{ERR} (oc), 8 ~{SD} (in)

## LP2988IM-3.3
designator U?
Micropower, 200 mA Ultra Low-Dropout Low Noise Voltage Regulator with Programmable Power-On Reset Delay; PartNumber: LP2988IM-3.3; Manufacturer: National Semiconductor; CompType: LDO IC; PackageTopMarking: NSZXTT*2988I*M3.3; Published: 4-Dec-2008; DatasheetVersion: Mar-2005; PackageVersion: revL, Sep-2006; PackageReference: M08A; Publisher: Altium Limited; PackageDescription: SOIC Narrow, 4.9 x 3.9 x 1.45mm, 8 Lead, 1.27mm Pitch; RoHS: Y; PinCount: 8; DigiKeyPartNumber: LP2988IM-3.3-ND; Code_JEDEC: MS-012-AA; Code_IPC: SOIC127P600-8; ComponentLink1Description: LP2988 Datasheet; ComponentLink1URL: http://www.national.com/ds/LP/LP2988.pdf; ComponentLink2Description: LP2988 Web Page; ComponentLink2URL: http://www.national.com/pf/LP/LP2988.html; ComponentLink3Description: M08A Package Page; ComponentLink3URL: http://www.national.com/packaging/folders/m08a.html
footprint M08A_N (SOIC, 8-Leads, Body 4.9x3.9mm, Pitch 1.27mm, IPC Medium Density)
footprint M08A_L (SOIC, 8-Leads, Body 4.9x3.9mm, Pitch 1.27mm, IPC High Density)
footprint M08A_M (SOIC, 8-Leads, Body 4.9x3.9mm, Pitch 1.27mm, IPC Low Density)
pins: 1 NC, 2 DLY, 3 GND (power), 4 IN (power), 5 OUT (power), 6 SNS, 7 ~{ERR} (oc), 8 ~{SD} (in)

## LP2988IM-5.0
designator U?
Micropower, 200 mA Ultra Low-Dropout Low Noise Voltage Regulator with Programmable Power-On Reset Delay; PartNumber: LP2988IM-5.0; Manufacturer: National Semiconductor; CompType: LDO IC; PackageTopMarking: NSZXTT*2988I*M5.0; Published: 4-Dec-2008; DatasheetVersion: Mar-2005; PackageVersion: revL, Sep-2006; PackageReference: M08A; Publisher: Altium Limited; PackageDescription: SOIC Narrow, 4.9 x 3.9 x 1.45mm, 8 Lead, 1.27mm Pitch; RoHS: Y; PinCount: 8; DigiKeyPartNumber: LP2988IM-5.0-ND; Code_JEDEC: MS-012-AA; Code_IPC: SOIC127P600-8; ComponentLink1Description: LP2988 Datasheet; ComponentLink1URL: http://www.national.com/ds/LP/LP2988.pdf; ComponentLink2Description: LP2988 Web Page; ComponentLink2URL: http://www.national.com/pf/LP/LP2988.html; ComponentLink3Description: M08A Package Page; ComponentLink3URL: http://www.national.com/packaging/folders/m08a.html
footprint M08A_N (SOIC, 8-Leads, Body 4.9x3.9mm, Pitch 1.27mm, IPC Medium Density)
footprint M08A_L (SOIC, 8-Leads, Body 4.9x3.9mm, Pitch 1.27mm, IPC High Density)
footprint M08A_M (SOIC, 8-Leads, Body 4.9x3.9mm, Pitch 1.27mm, IPC Low Density)
pins: 1 NC, 2 DLY, 3 GND (power), 4 IN (power), 5 OUT (power), 6 SNS, 7 ~{ERR} (oc), 8 ~{SD} (in)

## LP2988IMM-2.8
designator U?
Micropower, 200 mA Ultra Low-Dropout Low Noise Voltage Regulator with Programmable Power-On Reset Delay; PartNumber: LP2988IMM-2.8; Manufacturer: National Semiconductor; CompType: LDO IC; PackageTopMarking: ZXTT*L0IB; Published: 4-Dec-2008; DatasheetVersion: Mar-2005; PackageVersion: revF, Apr-2008; PackageReference: MUA08A; Publisher: Altium Limited; PackageDescription: MINI SOIC, .118 x .118 x .034in, 8 Lead, .0256in Pitch; RoHS: Y; PinCount: 8; DigiKeyPartNumber: LP2988IMM-2.8CT-ND; Code_JEDEC: MO-187-AA; ComponentLink1Description: LP2988 Datasheet; ComponentLink1URL: http://www.national.com/ds/LP/LP2988.pdf; ComponentLink2Description: LP2988 Web Page; ComponentLink2URL: http://www.national.com/pf/LP/LP2988.html; ComponentLink3Description: MUA08A Package Page; ComponentLink3URL: http://www.national.com/packaging/folders/mua08a.html
footprint MUA08A_N (TSOP, 8-Leads, Body 3x3mm, Pitch 0.65mm, IPC Medium Density)
footprint MUA08A_L (TSOP, 8-Leads, Body 3x3mm, Pitch 0.65mm, IPC High Density)
footprint MUA08A_M (TSOP, 8-Leads, Body 3x3mm, Pitch 0.65mm, IPC Low Density)
pins: 1 NC, 2 DLY, 3 GND (power), 4 IN (power), 5 OUT (power), 6 SNS, 7 ~{ERR} (oc), 8 ~{SD} (in)

## LP2988IMM-3.0
designator U?
Micropower, 200 mA Ultra Low-Dropout Low Noise Voltage Regulator with Programmable Power-On Reset Delay; PartNumber: LP2988IMM-3.0; Manufacturer: National Semiconductor; CompType: LDO IC; PackageTopMarking: ZXTT*L49B; Published: 4-Dec-2008; DatasheetVersion: Mar-2005; PackageVersion: revF, Apr-2008; PackageReference: MUA08A; Publisher: Altium Limited; PackageDescription: MINI SOIC, .118 x .118 x .034in, 8 Lead, .0256in Pitch; RoHS: Y; PinCount: 8; DigiKeyPartNumber: LP2988IMM-3.0CT-ND; Code_JEDEC: MO-187-AA; ComponentLink1Description: LP2988 Datasheet; ComponentLink1URL: http://www.national.com/ds/LP/LP2988.pdf; ComponentLink2Description: LP2988 Web Page; ComponentLink2URL: http://www.national.com/pf/LP/LP2988.html; ComponentLink3Description: MUA08A Package Page; ComponentLink3URL: http://www.national.com/packaging/folders/mua08a.html
footprint MUA08A_N (TSOP, 8-Leads, Body 3x3mm, Pitch 0.65mm, IPC Medium Density)
footprint MUA08A_L (TSOP, 8-Leads, Body 3x3mm, Pitch 0.65mm, IPC High Density)
footprint MUA08A_M (TSOP, 8-Leads, Body 3x3mm, Pitch 0.65mm, IPC Low Density)
pins: 1 NC, 2 DLY, 3 GND (power), 4 IN (power), 5 OUT (power), 6 SNS, 7 ~{ERR} (oc), 8 ~{SD} (in)

## LP2988IMM-3.3
designator U?
Micropower, 200 mA Ultra Low-Dropout Low Noise Voltage Regulator with Programmable Power-On Reset Delay; PartNumber: LP2988IMM-3.3; Manufacturer: National Semiconductor; CompType: LDO IC; PackageTopMarking: ZXTT*L50B; Published: 4-Dec-2008; DatasheetVersion: Mar-2005; PackageVersion: revF, Apr-2008; PackageReference: MUA08A; Publisher: Altium Limited; PackageDescription: MINI SOIC, .118 x .118 x .034in, 8 Lead, .0256in Pitch; RoHS: Y; PinCount: 8; DigiKeyPartNumber: LP2988IMM-3.3CT-ND; Code_JEDEC: MO-187-AA; ComponentLink1Description: LP2988 Datasheet; ComponentLink1URL: http://www.national.com/ds/LP/LP2988.pdf; ComponentLink2Description: LP2988 Web Page; ComponentLink2URL: http://www.national.com/pf/LP/LP2988.html; ComponentLink3Description: MUA08A Package Page; ComponentLink3URL: http://www.national.com/packaging/folders/mua08a.html
footprint MUA08A_N (TSOP, 8-Leads, Body 3x3mm, Pitch 0.65mm, IPC Medium Density)
footprint MUA08A_L (TSOP, 8-Leads, Body 3x3mm, Pitch 0.65mm, IPC High Density)
footprint MUA08A_M (TSOP, 8-Leads, Body 3x3mm, Pitch 0.65mm, IPC Low Density)
pins: 1 NC, 2 DLY, 3 GND (power), 4 IN (power), 5 OUT (power), 6 SNS, 7 ~{ERR} (oc), 8 ~{SD} (in)

## LP2988IMM-5.0
designator U?
Micropower, 200 mA Ultra Low-Dropout Low Noise Voltage Regulator with Programmable Power-On Reset Delay; PartNumber: LP2988IMM-5.0; Manufacturer: National Semiconductor; CompType: LDO IC; PackageTopMarking: ZXTT*L51B; Published: 4-Dec-2008; DatasheetVersion: Mar-2005; PackageVersion: revF, Apr-2008; PackageReference: MUA08A; Publisher: Altium Limited; PackageDescription: MINI SOIC, .118 x .118 x .034in, 8 Lead, .0256in Pitch; RoHS: Y; PinCount: 8; DigiKeyPartNumber: LP2988IMM-5.0CT-ND; Code_JEDEC: MO-187-AA; ComponentLink1Description: LP2988 Datasheet; ComponentLink1URL: http://www.national.com/ds/LP/LP2988.pdf; ComponentLink2Description: LP2988 Web Page; ComponentLink2URL: http://www.national.com/pf/LP/LP2988.html; ComponentLink3Description: MUA08A Package Page; ComponentLink3URL: http://www.national.com/packaging/folders/mua08a.html
footprint MUA08A_N (TSOP, 8-Leads, Body 3x3mm, Pitch 0.65mm, IPC Medium Density)
footprint MUA08A_L (TSOP, 8-Leads, Body 3x3mm, Pitch 0.65mm, IPC High Density)
footprint MUA08A_M (TSOP, 8-Leads, Body 3x3mm, Pitch 0.65mm, IPC Low Density)
pins: 1 NC, 2 DLY, 3 GND (power), 4 IN (power), 5 OUT (power), 6 SNS, 7 ~{ERR} (oc), 8 ~{SD} (in)

## LP2989AILD-1.8
designator U?
Micropower/Low Noise, 500 mA Ultra Low-Dropout Regulator; PartNumber: LP2989AILD-1.8; Manufacturer: National Semiconductor; CompType: LDO IC; PackageTopMarking: NS*UZXYTT*L01EA; Published: 4-Dec-2008; DatasheetVersion: Feb-2005; PackageVersion: revB, Jun-2003; PackageReference: LDC08A; Publisher: Altium Limited; PackageDescription: LLP, Plastic, Dual, 4 x 4 x 0.75mm Body, 8 Lead, 0.8mm Pitch; RoHS: O; PinCount: 8; DigiKeyPartNumber: LP2989AILD-1.8CT-ND; ComponentLink1Description: LP2989LV Datasheet; ComponentLink1URL: http://www.national.com/ds/LP/LP2989LV.pdf; ComponentLink2Description: LP2989LV Web Page; ComponentLink2URL: http://www.national.com/pf/LP/LP2989LV.html; ComponentLink3Description: LDC08A Package Page; ComponentLink3URL: http://www.national.com/packaging/folders/ldc08a.html
footprint LDC08A (PSON, 8-Leads, Body 4x4mm, Pitch 0.8mm, NSC Recommended)
pins: 1 BYP, 2 NC, 3 GND (power), 4 IN (power), 5 OUT (power), 6 SNS (in), 7 ~{ERR} (oc), 8 ~{SD} (in), 9 DAP (power)

## LP2989AILD-2.5
designator U?
Micropower/Low Noise, 500 mA Ultra Low-Dropout Regulator; PartNumber: LP2989AILD-2.5; Manufacturer: National Semiconductor; CompType: LDO IC; PackageTopMarking: NS*UZXYTT*L01FA; Published: 4-Dec-2008; DatasheetVersion: Feb-2005; PackageVersion: revB, Jun-2003; PackageReference: LDC08A; Publisher: Altium Limited; PackageDescription: LLP, Plastic, Dual, 4 x 4 x 0.75mm Body, 8 Lead, 0.8mm Pitch; RoHS: O; PinCount: 8; DigiKeyPartNumber: LP2989AILD-2.5CT-ND; ComponentLink1Description: LP2989 Datasheet; ComponentLink1URL: http://www.national.com/ds/LP/LP2989.pdf; ComponentLink2Description: LP2989 Web Page; ComponentLink2URL: http://www.national.com/pf/LP/LP2989.html; ComponentLink3Description: LDC08A Package Page; ComponentLink3URL: http://www.national.com/packaging/folders/ldc08a.html
footprint LDC08A (PSON, 8-Leads, Body 4x4mm, Pitch 0.8mm, NSC Recommended)
pins: 1 BYP, 2 NC, 3 GND (power), 4 IN (power), 5 OUT (power), 6 SNS (in), 7 ~{ERR} (oc), 8 ~{SD} (in), 9 DAP (power)

## LP2989AILD-2.8
designator U?
Micropower/Low Noise, 500 mA Ultra Low-Dropout Regulator; PartNumber: LP2989AILD-2.8; Manufacturer: National Semiconductor; CompType: LDO IC; PackageTopMarking: NS*UZXYTT*L000A; Published: 4-Dec-2008; DatasheetVersion: Feb-2005; PackageVersion: revB, Jun-2003; PackageReference: LDC08A; Publisher: Altium Limited; PackageDescription: LLP, Plastic, Dual, 4 x 4 x 0.75mm Body, 8 Lead, 0.8mm Pitch; RoHS: N; PinCount: 8; DigiKeyPartNumber: LP2989AILD-2.8CT-ND; ComponentLink1Description: LP2989 Datasheet; ComponentLink1URL: http://www.national.com/ds/LP/LP2989.pdf; ComponentLink2Description: LP2989 Web Page; ComponentLink2URL: http://www.national.com/pf/LP/LP2989.html; ComponentLink3Description: LDC08A Package Page; ComponentLink3URL: http://www.national.com/packaging/folders/ldc08a.html
footprint LDC08A (PSON, 8-Leads, Body 4x4mm, Pitch 0.8mm, NSC Recommended)
pins: 1 BYP, 2 NC, 3 GND (power), 4 IN (power), 5 OUT (power), 6 SNS (in), 7 ~{ERR} (oc), 8 ~{SD} (in), 9 DAP (power)

## LP2989AILD-3.0
designator U?
Micropower/Low Noise, 500 mA Ultra Low-Dropout Regulator; PartNumber: LP2989AILD-3.0; Manufacturer: National Semiconductor; CompType: LDO IC; PackageTopMarking: NS*UZXYTT*L01HA; Published: 4-Dec-2008; DatasheetVersion: Feb-2005; PackageVersion: revB, Jun-2003; PackageReference: LDC08A; Publisher: Altium Limited; PackageDescription: LLP, Plastic, Dual, 4 x 4 x 0.75mm Body, 8 Lead, 0.8mm Pitch; RoHS: Y; PinCount: 8; DigiKeyPartNumber: LP2989AILD-3.0CT-ND; ComponentLink1Description: LP2989 Datasheet; ComponentLink1URL: http://www.national.com/ds/LP/LP2989.pdf; ComponentLink2Description: LP2989 Web Page; ComponentLink2URL: http://www.national.com/pf/LP/LP2989.html; ComponentLink3Description: LDC08A Package Page; ComponentLink3URL: http://www.national.com/packaging/folders/ldc08a.html
footprint LDC08A (PSON, 8-Leads, Body 4x4mm, Pitch 0.8mm, NSC Recommended)
pins: 1 BYP, 2 NC, 3 GND (power), 4 IN (power), 5 OUT (power), 6 SNS (in), 7 ~{ERR} (oc), 8 ~{SD} (in), 9 DAP (power)

## LP2989AILD-3.3
designator U?
Micropower/Low Noise, 500 mA Ultra Low-Dropout Regulator; PartNumber: LP2989AILD-3.3; Manufacturer: National Semiconductor; CompType: LDO IC; PackageTopMarking: NS*UZXYTT*L01JA; Published: 4-Dec-2008; DatasheetVersion: Feb-2005; PackageVersion: revB, Jun-2003; PackageReference: LDC08A; Publisher: Altium Limited; PackageDescription: LLP, Plastic, Dual, 4 x 4 x 0.75mm Body, 8 Lead, 0.8mm Pitch; RoHS: O; PinCount: 8; DigiKeyPartNumber: LP2989AILD-3.3CT-ND; ComponentLink1Description: LP2989 Datasheet; ComponentLink1URL: http://www.national.com/ds/LP/LP2989.pdf; ComponentLink2Description: LP2989 Web Page; ComponentLink2URL: http://www.national.com/pf/LP/LP2989.html; ComponentLink3Description: LDC08A Package Page; ComponentLink3URL: http://www.national.com/packaging/folders/ldc08a.html
footprint LDC08A (PSON, 8-Leads, Body 4x4mm, Pitch 0.8mm, NSC Recommended)
pins: 1 BYP, 2 NC, 3 GND (power), 4 IN (power), 5 OUT (power), 6 SNS (in), 7 ~{ERR} (oc), 8 ~{SD} (in), 9 DAP (power)

## LP2989AILD-5.0
designator U?
Micropower/Low Noise, 500 mA Ultra Low-Dropout Regulator; PartNumber: LP2989AILD-5.0; Manufacturer: National Semiconductor; CompType: LDO IC; PackageTopMarking: NS*UZXYTT*L01KA; Published: 4-Dec-2008; DatasheetVersion: Feb-2005; PackageVersion: revB, Jun-2003; PackageReference: LDC08A; Publisher: Altium Limited; PackageDescription: LLP, Plastic, Dual, 4 x 4 x 0.75mm Body, 8 Lead, 0.8mm Pitch; RoHS: Y; PinCount: 8; DigiKeyPartNumber: LP2989AILD-5.0CT-ND; ComponentLink1Description: LP2989 Datasheet; ComponentLink1URL: http://www.national.com/ds/LP/LP2989.pdf; ComponentLink2Description: LP2989 Web Page; ComponentLink2URL: http://www.national.com/pf/LP/LP2989.html; ComponentLink3Description: LDC08A Package Page; ComponentLink3URL: http://www.national.com/packaging/folders/ldc08a.html
footprint LDC08A (PSON, 8-Leads, Body 4x4mm, Pitch 0.8mm, NSC Recommended)
pins: 1 BYP, 2 NC, 3 GND (power), 4 IN (power), 5 OUT (power), 6 SNS (in), 7 ~{ERR} (oc), 8 ~{SD} (in), 9 DAP (power)

## LP2989AIM-1.8
designator U?
Micropower/Low Noise, 500 mA Ultra Low-Dropout Regulator; PartNumber: LP2989AIM-1.8; Manufacturer: National Semiconductor; CompType: LDO IC; PackageTopMarking: NSZXTT*2989A*IM1.8; Published: 4-Dec-2008; DatasheetVersion: Feb-2005; PackageVersion: revL, Sep-2006; PackageReference: M08A; Publisher: Altium Limited; PackageDescription: SOIC Narrow, 4.9 x 3.9 x 1.45mm, 8 Lead, 1.27mm Pitch; RoHS: Y; PinCount: 8; DigiKeyPartNumber: LP2989AIM-1.8-ND; Code_JEDEC: MS-012-AA; Code_IPC: SOIC127P600-8; ComponentLink1Description: LP2989LV Datasheet; ComponentLink1URL: http://www.national.com/ds/LP/LP2989LV.pdf; ComponentLink2Description: LP2989LV Web Page; ComponentLink2URL: http://www.national.com/pf/LP/LP2989LV.html; ComponentLink3Description: M08A Package Page; ComponentLink3URL: http://www.national.com/packaging/folders/m08a.html
footprint M08A_N (SOIC, 8-Leads, Body 4.9x3.9mm, Pitch 1.27mm, IPC Medium Density)
footprint M08A_L (SOIC, 8-Leads, Body 4.9x3.9mm, Pitch 1.27mm, IPC High Density)
footprint M08A_M (SOIC, 8-Leads, Body 4.9x3.9mm, Pitch 1.27mm, IPC Low Density)
pins: 1 BYP, 2 NC, 3 GND (power), 4 IN (power), 5 OUT (power), 6 SNS (in), 7 ~{ERR} (oc), 8 ~{SD} (in)

## LP2989AIM-2.5
designator U?
Micropower/Low Noise, 500 mA Ultra Low-Dropout Regulator; PartNumber: LP2989AIM-2.5; Manufacturer: National Semiconductor; CompType: LDO IC; PackageTopMarking: NSZXTT*2989A*IM2.5; Published: 4-Dec-2008; DatasheetVersion: Feb-2005; PackageVersion: revL, Sep-2006; PackageReference: M08A; Publisher: Altium Limited; PackageDescription: SOIC Narrow, 4.9 x 3.9 x 1.45mm, 8 Lead, 1.27mm Pitch; RoHS: Y; PinCount: 8; DigiKeyPartNumber: LP2989AIM-2.5-ND; Code_JEDEC: MS-012-AA; Code_IPC: SOIC127P600-8; ComponentLink1Description: LP2989 Datasheet; ComponentLink1URL: http://www.national.com/ds/LP/LP2989.pdf; ComponentLink2Description: LP2989 Web Page; ComponentLink2URL: http://www.national.com/pf/LP/LP2989.html; ComponentLink3Description: M08A Package Page; ComponentLink3URL: http://www.national.com/packaging/folders/m08a.html
footprint M08A_N (SOIC, 8-Leads, Body 4.9x3.9mm, Pitch 1.27mm, IPC Medium Density)
footprint M08A_L (SOIC, 8-Leads, Body 4.9x3.9mm, Pitch 1.27mm, IPC High Density)
footprint M08A_M (SOIC, 8-Leads, Body 4.9x3.9mm, Pitch 1.27mm, IPC Low Density)
pins: 1 BYP, 2 NC, 3 GND (power), 4 IN (power), 5 OUT (power), 6 SNS (in), 7 ~{ERR} (oc), 8 ~{SD} (in)

## LP2989AIM-3.0
designator U?
Micropower/Low Noise, 500 mA Ultra Low-Dropout Regulator; PartNumber: LP2989AIM-3.0; Manufacturer: National Semiconductor; CompType: LDO IC; PackageTopMarking: NSZXTT*2989A*IM3.0; Published: 4-Dec-2008; DatasheetVersion: Feb-2005; PackageVersion: revL, Sep-2006; PackageReference: M08A; Publisher: Altium Limited; PackageDescription: SOIC Narrow, 4.9 x 3.9 x 1.45mm, 8 Lead, 1.27mm Pitch; RoHS: Y; PinCount: 8; DigiKeyPartNumber: LP2989AIM-3.0-ND; Code_JEDEC: MS-012-AA; Code_IPC: SOIC127P600-8; ComponentLink1Description: LP2989 Datasheet; ComponentLink1URL: http://www.national.com/ds/LP/LP2989.pdf; ComponentLink2Description: LP2989 Web Page; ComponentLink2URL: http://www.national.com/pf/LP/LP2989.html; ComponentLink3Description: M08A Package Page; ComponentLink3URL: http://www.national.com/packaging/folders/m08a.html
footprint M08A_N (SOIC, 8-Leads, Body 4.9x3.9mm, Pitch 1.27mm, IPC Medium Density)
footprint M08A_L (SOIC, 8-Leads, Body 4.9x3.9mm, Pitch 1.27mm, IPC High Density)
footprint M08A_M (SOIC, 8-Leads, Body 4.9x3.9mm, Pitch 1.27mm, IPC Low Density)
pins: 1 BYP, 2 NC, 3 GND (power), 4 IN (power), 5 OUT (power), 6 SNS (in), 7 ~{ERR} (oc), 8 ~{SD} (in)

## LP2989AIM-3.3
designator U?
Micropower/Low Noise, 500 mA Ultra Low-Dropout Regulator; PartNumber: LP2989AIM-3.3; Manufacturer: National Semiconductor; CompType: LDO IC; PackageTopMarking: NSZXTT*2989A*IM3.3; Published: 4-Dec-2008; DatasheetVersion: Feb-2005; PackageVersion: revL, Sep-2006; PackageReference: M08A; Publisher: Altium Limited; PackageDescription: SOIC Narrow, 4.9 x 3.9 x 1.45mm, 8 Lead, 1.27mm Pitch; RoHS: O; PinCount: 8; DigiKeyPartNumber: LP2989AIM-3.3-ND; Code_JEDEC: MS-012-AA; Code_IPC: SOIC127P600-8; ComponentLink1Description: LP2989 Datasheet; ComponentLink1URL: http://www.national.com/ds/LP/LP2989.pdf; ComponentLink2Description: LP2989 Web Page; ComponentLink2URL: http://www.national.com/pf/LP/LP2989.html; ComponentLink3Description: M08A Package Page; ComponentLink3URL: http://www.national.com/packaging/folders/m08a.html
footprint M08A_N (SOIC, 8-Leads, Body 4.9x3.9mm, Pitch 1.27mm, IPC Medium Density)
footprint M08A_L (SOIC, 8-Leads, Body 4.9x3.9mm, Pitch 1.27mm, IPC High Density)
footprint M08A_M (SOIC, 8-Leads, Body 4.9x3.9mm, Pitch 1.27mm, IPC Low Density)
pins: 1 BYP, 2 NC, 3 GND (power), 4 IN (power), 5 OUT (power), 6 SNS (in), 7 ~{ERR} (oc), 8 ~{SD} (in)

## LP2989AIM-5.0
designator U?
Micropower/Low Noise, 500 mA Ultra Low-Dropout Regulator; PartNumber: LP2989AIM-5.0; Manufacturer: National Semiconductor; CompType: LDO IC; PackageTopMarking: NSZXTT*2989A*IM5.0; Published: 4-Dec-2008; DatasheetVersion: Feb-2005; PackageVersion: revL, Sep-2006; PackageReference: M08A; Publisher: Altium Limited; PackageDescription: SOIC Narrow, 4.9 x 3.9 x 1.45mm, 8 Lead, 1.27mm Pitch; RoHS: O; PinCount: 8; DigiKeyPartNumber: LP2989AIM-5.0-ND; Code_JEDEC: MS-012-AA; Code_IPC: SOIC127P600-8; ComponentLink1Description: LP2989 Datasheet; ComponentLink1URL: http://www.national.com/ds/LP/LP2989.pdf; ComponentLink2Description: LP2989 Web Page; ComponentLink2URL: http://www.national.com/pf/LP/LP2989.html; ComponentLink3Description: M08A Package Page; ComponentLink3URL: http://www.national.com/packaging/folders/m08a.html
footprint M08A_N (SOIC, 8-Leads, Body 4.9x3.9mm, Pitch 1.27mm, IPC Medium Density)
footprint M08A_L (SOIC, 8-Leads, Body 4.9x3.9mm, Pitch 1.27mm, IPC High Density)
footprint M08A_M (SOIC, 8-Leads, Body 4.9x3.9mm, Pitch 1.27mm, IPC Low Density)
pins: 1 BYP, 2 NC, 3 GND (power), 4 IN (power), 5 OUT (power), 6 SNS (in), 7 ~{ERR} (oc), 8 ~{SD} (in)

## LP2989AIMM-1.8
designator U?
Micropower/Low Noise, 500 mA Ultra Low-Dropout Regulator; PartNumber: LP2989AIMM-1.8; Manufacturer: National Semiconductor; CompType: LDO IC; PackageTopMarking: ZXTT*LA5A; Published: 4-Dec-2008; DatasheetVersion: Feb-2005; PackageVersion: revF, Apr-2008; PackageReference: MUA08A; Publisher: Altium Limited; PackageDescription: MINI SOIC, .118 x .118 x .034in, 8 Lead, .0256in Pitch; RoHS: Y; PinCount: 8; DigiKeyPartNumber: LP2989AIMM-1.8CT-ND; Code_JEDEC: MO-187-AA; ComponentLink1Description: LP2989LV Datasheet; ComponentLink1URL: http://www.national.com/ds/LP/LP2989LV.pdf; ComponentLink2Description: LP2989LV Web Page; ComponentLink2URL: http://www.national.com/pf/LP/LP2989LV.html; ComponentLink3Description: MUA08A Package Page; ComponentLink3URL: http://www.national.com/packaging/folders/mua08a.html
footprint MUA08A_N (TSOP, 8-Leads, Body 3x3mm, Pitch 0.65mm, IPC Medium Density)
footprint MUA08A_L (TSOP, 8-Leads, Body 3x3mm, Pitch 0.65mm, IPC High Density)
footprint MUA08A_M (TSOP, 8-Leads, Body 3x3mm, Pitch 0.65mm, IPC Low Density)
pins: 1 BYP, 2 NC, 3 GND (power), 4 IN (power), 5 OUT (power), 6 SNS (in), 7 ~{ERR} (oc), 8 ~{SD} (in)